# EAGLE library part FX2-120P-1.27DS (library Mechanical)
Hirose 120 pin FX2 right angle header connector
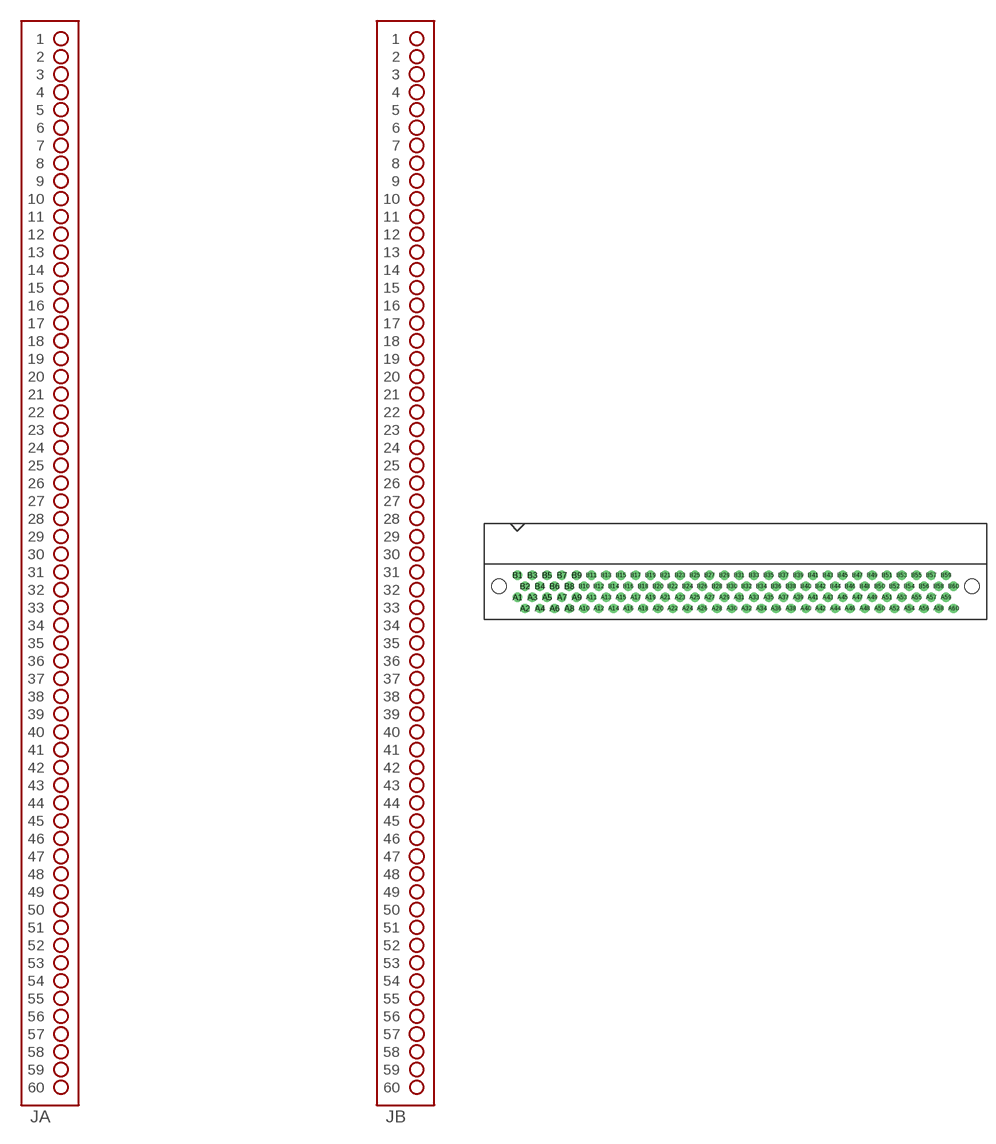
[diagram p36: symbol with the pads of FX2-120P-1.27DS; footprint FX2-120P-1.27DS]

Designator prefix J; gates A=PHDR-60 B=PHDR-60

## FX2-120P-1.27DS  [FX2-120P-1.27DS]
A1  A:1  pas
A2  A:2  pas
A3  A:3  pas
A4  A:4  pas
A5  A:5  pas
A6  A:6  pas
A7  A:7  pas
A8  A:8  pas
A9  A:9  pas
A10  A:10  pas
A11  A:11  pas
A12  A:12  pas
A13  A:13  pas
A14  A:14  pas
A15  A:15  pas
A16  A:16  pas
A17  A:17  pas
A18  A:18  pas
A19  A:19  pas
A20  A:20  pas
A21  A:21  pas
A22  A:22  pas
A23  A:23  pas
A24  A:24  pas
A25  A:25  pas
A26  A:26  pas
A27  A:27  pas
A28  A:28  pas
A29  A:29  pas
A30  A:30  pas
A31  A:31  pas
A32  A:32  pas
A33  A:33  pas
A34  A:34  pas
A35  A:35  pas
A36  A:36  pas
A37  A:37  pas
A38  A:38  pas
A39  A:39  pas
A40  A:40  pas
A41  A:41  pas
A42  A:42  pas
A43  A:43  pas
A44  A:44  pas
A45  A:45  pas
A46  A:46  pas
A47  A:47  pas
A48  A:48  pas
A49  A:49  pas
A50  A:50  pas
A51  A:51  pas
A52  A:52  pas
A53  A:53  pas
A54  A:54  pas
A55  A:55  pas
A56  A:56  pas
A57  A:57  pas
A58  A:58  pas
A59  A:59  pas
A60  A:60  pas
B1  B:1  pas
B2  B:2  pas
B3  B:3  pas
B4  B:4  pas
B5  B:5  pas
B6  B:6  pas
B7  B:7  pas
B8  B:8  pas
B9  B:9  pas
B10  B:10  pas
B11  B:11  pas
B12  B:12  pas
B13  B:13  pas
B14  B:14  pas
B15  B:15  pas
B16  B:16  pas
B17  B:17  pas
B18  B:18  pas
B19  B:19  pas
B20  B:20  pas
B21  B:21  pas
B22  B:22  pas
B23  B:23  pas
B24  B:24  pas
B25  B:25  pas
B26  B:26  pas
B27  B:27  pas
B28  B:28  pas
B29  B:29  pas
B30  B:30  pas
B31  B:31  pas
B32  B:32  pas
B33  B:33  pas
B34  B:34  pas
B35  B:35  pas
B36  B:36  pas
B37  B:37  pas
B38  B:38  pas
B39  B:39  pas
B40  B:40  pas
B41  B:41  pas
B42  B:42  pas
B43  B:43  pas
B44  B:44  pas
B45  B:45  pas
B46  B:46  pas
B47  B:47  pas
B48  B:48  pas
B49  B:49  pas
B50  B:50  pas
B51  B:51  pas
B52  B:52  pas
B53  B:53  pas
B54  B:54  pas
B55  B:55  pas
B56  B:56  pas
B57  B:57  pas
B58  B:58  pas
B59  B:59  pas
B60  B:60  pas

## Footprint FX2-120P-1.27DS (pad centres in mm)
Hirose120 pin 1.27mm pitch right angle header connedtor
drill 1.067: A1 -37.465,-1.27; A2 -36.195,-3.175; A3 -34.925,-1.27; A4 -33.655,-3.175; A5 -32.385,-1.27; A6 -31.115,-3.175; A7 -29.845,-1.27; A8 -28.575,-3.175; A9 -27.305,-1.27; A10 -26.035,-3.175; A11 -24.765,-1.27; A12 -23.495,-3.175; A13 -22.225,-1.27; A14 -20.955,-3.175; A15 -19.685,-1.27; A16 -18.415,-3.175; A17 -17.145,-1.27; A18 -15.875,-3.175; A19 -14.605,-1.27; A20 -13.335,-3.175; A21 -12.065,-1.27; A22 -10.795,-3.175; A23 -9.525,-1.27; A24 -8.255,-3.175; A25 -6.985,-1.27; A26 -5.715,-3.175; A27 -4.445,-1.27; A28 -3.175,-3.175; A29 -1.905,-1.27; A30 -0.635,-3.175; A31 0.635,-1.27; A32 1.905,-3.175; A33 3.175,-1.27; A34 4.445,-3.175; A35 5.715,-1.27; A36 6.985,-3.175; A37 8.255,-1.27; A38 9.525,-3.175; A39 10.795,-1.27; A40 12.065,-3.175; A41 13.335,-1.27; A42 14.605,-3.175; A43 15.875,-1.27; A44 17.145,-3.175; A45 18.415,-1.27; A46 19.685,-3.175; A47 20.955,-1.27; A48 22.225,-3.175; A49 23.495,-1.27; A50 24.765,-3.175; A51 26.035,-1.27; A52 27.305,-3.175; A53 28.575,-1.27; A54 29.845,-3.175; A55 31.115,-1.27; A56 32.385,-3.175; A57 33.655,-1.27; A58 34.925,-3.175; A59 36.195,-1.27; A60 37.465,-3.175; B1 -37.465,2.54; B2 -36.195,0.635; B3 -34.925,2.54; B4 -33.655,0.635; B5 -32.385,2.54; B6 -31.115,0.635; B7 -29.845,2.54; B8 -28.575,0.635; B9 -27.305,2.54; B10 -26.035,0.635; B11 -24.765,2.54; B12 -23.495,0.635; B13 -22.225,2.54; B14 -20.955,0.635; B15 -19.685,2.54; B16 -18.415,0.635; B17 -17.145,2.54; B18 -15.875,0.635; B19 -14.605,2.54; B20 -13.335,0.635; B21 -12.065,2.54; B32 1.905,0.635; B33 3.175,2.54; B34 4.445,0.635; B35 5.715,2.54; B36 6.985,0.635; B37 8.255,2.54; B38 9.525,0.635; B39 10.795,2.54; B40 12.065,0.635; B41 13.335,2.54; B42 14.605,0.635; B43 15.875,2.54; B44 17.145,0.635; B45 18.415,2.54; B46 19.685,0.635; B47 20.955,2.54; B48 22.225,0.635; B49 23.495,2.54; B50 24.765,0.635; B51 26.035,2.54; B52 27.305,0.635; B53 28.575,2.54; B54 29.845,0.635; B55 31.115,2.54; B56 32.385,0.635; B57 33.655,2.54; B58 34.925,0.635; B59 36.195,2.54; B60 37.465,0.635
drill 1.066: B22 -10.795,0.635; B23 -9.525,2.54; B24 -8.255,0.635; B25 -6.985,2.54; B26 -5.715,0.635; B27 -4.445,2.54; B28 -3.175,0.635; B29 -1.905,2.54; B30 -0.635,0.635; B31 0.635,2.54
hole 2.54 at -40.64,0.635
hole 2.54 at 40.64,0.635